# EAGLE library part STM32L053C8 (library STM32L053C8T6)
32 Bit Cortex M0+ Microcontroller This Part will also work for other variants of STM32L053 and even other Lines of µC from ST.
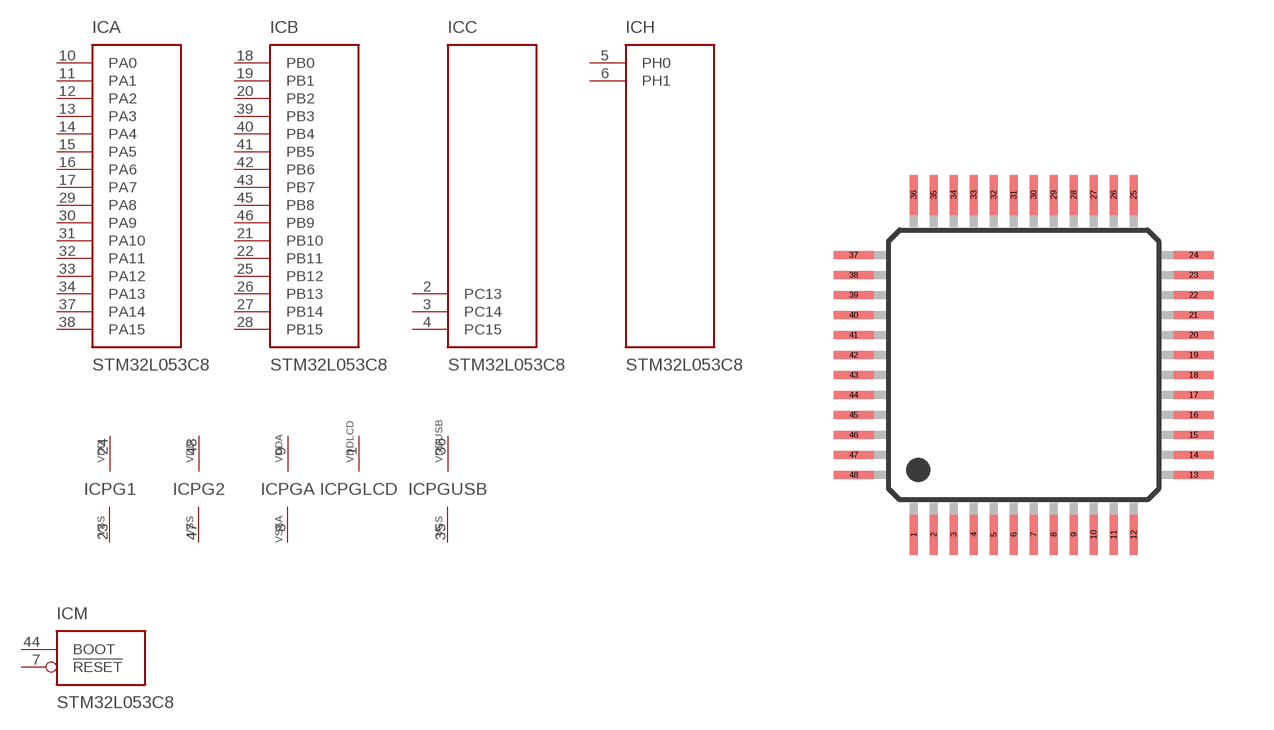
[diagram p0: symbol with the pads of LQFP48; footprint LQFP48]

Designator prefix IC; gates A=STM32L053C8_GPIOA B=STM32L053C8_GPIOB C=STM32L053C8_GPIOC H=STM32L053C8_GPIOH PG1=POWER PG2=POWER PGA=POWERA PGLCD=POWERSPEC PGUSB=POWERUSB M=STM32L053C8_MISC

## STM32L053C8 (MFG: STMicroelectronics; MPN: STM32L053C8T6)  [LQFP48]
1  PGLCD:VDD  pwr
2  C:PC13
3  C:PC14
4  C:PC15
5  H:PH0
6  H:PH1
7  M:!RESET
8  PGA:VSS  pwr
9  PGA:VDD  pwr
10  A:PA0
11  A:PA1
12  A:PA2
13  A:PA3
14  A:PA4
15  A:PA5
16  A:PA6
17  A:PA7
18  B:PB0
19  B:PB1
20  B:PB2
21  B:PB10
22  B:PB11
23  PG1:VSS  pwr
24  PG1:VDD  pwr
25  B:PB12
26  B:PB13
27  B:PB14
28  B:PB15
29  A:PA8
30  A:PA9
31  A:PA10
32  A:PA11
33  A:PA12
34  A:PA13
35  PGUSB:VSS  pwr
36  PGUSB:VDD  pwr
37  A:PA14
38  A:PA15
39  B:PB3
40  B:PB4
41  B:PB5
42  B:PB6
43  B:PB7
44  M:BOOT
45  B:PB8
46  B:PB9
47  PG2:VSS  pwr
48  PG2:VDD  pwr

## Footprint LQFP48 (pad centres in mm)
48-pin LQFP
smd 0.2 x 1: 1 -2.75,-4.25; 2 -2.25,-4.25; 3 -1.75,-4.25; 4 -1.25,-4.25; 5 -0.75,-4.25; 6 -0.25,-4.25; 7 0.25,-4.25; 8 0.75,-4.25; 9 1.25,-4.25; 10 1.75,-4.25; 11 2.25,-4.25; 12 2.75,-4.25; 25 2.75,4.25; 26 2.25,4.25; 27 1.75,4.25; 28 1.25,4.25; 29 0.75,4.25; 30 0.25,4.25; 31 -0.25,4.25; 32 -0.75,4.25; 33 -1.25,4.25; 34 -1.75,4.25; 35 -2.25,4.25; 36 -2.75,4.25
smd 1 x 0.2: 13 4.25,-2.75; 14 4.25,-2.25; 15 4.25,-1.75; 16 4.25,-1.25; 17 4.25,-0.75; 18 4.25,-0.25; 19 4.25,0.25; 20 4.25,0.75; 21 4.25,1.25; 22 4.25,1.75; 23 4.25,2.25; 24 4.25,2.75; 37 -4.25,2.75; 38 -4.25,2.25; 39 -4.25,1.75; 40 -4.25,1.25; 41 -4.25,0.75; 42 -4.25,0.25; 43 -4.25,-0.25; 44 -4.25,-0.75; 45 -4.25,-1.25; 46 -4.25,-1.75; 47 -4.25,-2.25; 48 -4.25,-2.75